# Altium schematic symbol library sim_connector.SchLib: 1 symbol
Pins are listed as number, name and electrical type; pins without a type are passive.

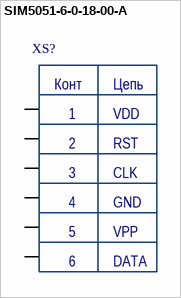
[diagram p0: symbol SIM5051-6-0-18-00-A]

## SIM5051-6-0-18-00-A
designator XS?  (value not drawn)
No Description Available; Vendor: Global Connector Technology; Built_By: EMA_Cory; SourceLibrary: GCT_2020-07-23; Datasheet: https://gct.co/files/drawings/sim5051.pdf; Manufacturer_Part_Number: SIM5051-6-0-18-00-A; Copyright: Copyright (C) 2018 Accelerated Designs. All rights reserved; RefDes: RefDes; Type: DEV
footprint SIM5051-6-0-18-00-A_GCT
pins: 1 VCC (power), 2 RST, 3 CLK, 4 GND, 5 VPP (power), 6 I/O
text: Конт; Цепь; VDD; DATA